# Altium footprint library SSOP-10_150mil.PcbLib: 1 footprints
Each footprint in its own frame and in the unit in brackets; x right, y up, seen from the top. Pads: shape width x height; smd on the part's side, far side on the other; paste and mask are expansions set on the pad; w line width, h text height; cw(c..) or ccw(c..) is an arc to the next point about the centre after c.
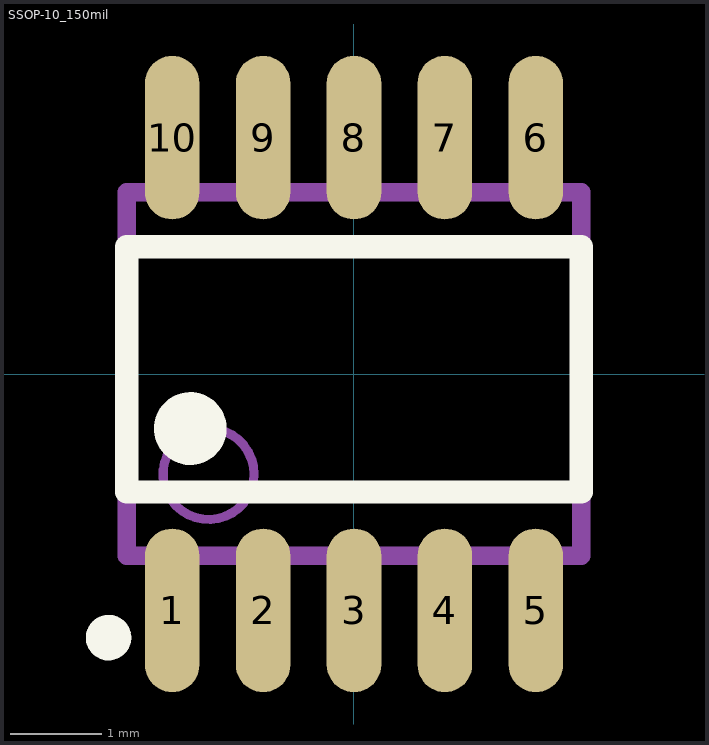
[diagram p0: the footprint, top view; thin cyan lines are the x and y axes]

## SSOP-10_150mil [mm]
pads (10):
  oval 0.6x1.8 smd: 1(-2,-2.6) 2(-1,-2.6) 3(0,-2.6) 4(1,-2.6) 5(2,-2.6) 6(2,2.6) 7(1,2.6) 8(0,2.6) 9(-1,2.6) 10(-2,2.6)
Top Overlay:
  circle w0.4: c-1.8,-0.6 r0.2
  circle w0.25: c-2.7,-2.9 r0.125
  lines w0.254: -2.5,-1.3 2.5,-1.3 2.5,1.4 -2.5,1.4 -2.5,-1.3
Mechanical 13:
  circle w0.1: c-1.6,-1.1 r0.5
  lines w0.2: -2.5,-2 2.5,-2 2.5,2 -2.5,2 -2.5,-2